# EAGLE library part LM5113 (library ruark2)
Half-Bridge Gate Driver IC Non-Inverting 10-WSON (4x4) 5V for GaN
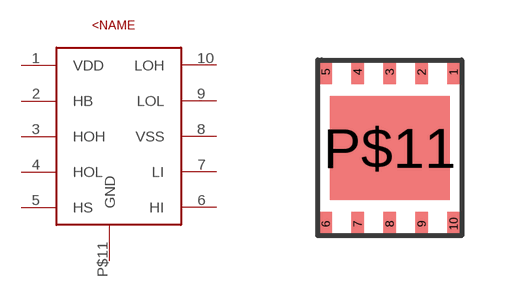
[diagram p0: symbol with the pads of WSSON; footprint WSSON]

Designator prefix U

## LM5113 (PARTNO: LM5113SD/NOPBCT-ND)  [WSSON]
1  VDD
2  HB
3  HOH
4  HOL
5  HS
6  HI
7  LI
8  VSS
9  LOL
10  LOH
P$11  GND

## Footprint WSSON (pad centres in mm)
smd 0.305 x 0.61: 1 2,0.9; 2 1.2,0.9; 3 0.4,0.9; 4 -0.4,0.9; 5 -1.2,0.9; 6 -1.2,-2.9; 7 -0.4,-2.9; 8 0.4,-2.9; 9 1.2,-2.9; 10 2,-2.9
smd 3 x 2.6: P$11 0.4,-1